# EAGLE library part FSB50450 (library fairchild-semic)
Smart Power Module (SPM®) 500V 3.0A 3-phase FRFET inverter including high voltage integrated circuit (HVIC) Source: http://www.fairchildsemi.com/ds/FS/FSB50450.pdf
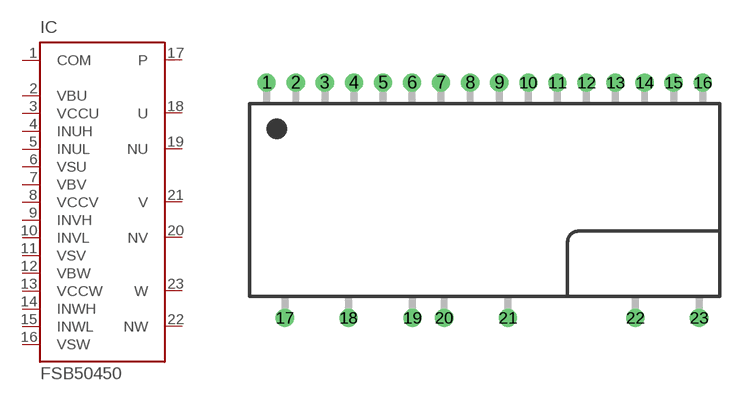
[diagram p0: symbol with the pads of SPM23AA; footprint SPM23AA]

Designator prefix IC

## FSB50450 (MPN: FSB50450S; OC_FARNELL: 1095107; OC_NEWARK: 67P3515)  [SPM23AA]
1  COM  in
2  VBU  in
3  VCCU  in
4  INUH  in
5  INUL  in
6  VSU  in
7  VBV  in
8  VCCV  in
9  INVH  in
10  INVL  in
11  VSV  in
12  VBW  in
13  VCCW  in
14  INWH  in
15  INWL  in
16  VSW  in
17  P  in
18  U  in
19  NU  in
20  NV  in
21  V  in
22  NW  in
23  W  in

## Footprint SPM23AA (pad centres in mm)
Source: http://www.fairchildsemi.com/ds/FS/FSB50450.pdf
drill 0.6 pad 1: 1 -13.34,7.2; 2 -11.561,7.2; 3 -9.783,7.2; 4 -8.004,7.2; 5 -6.226,7.2; 6 -4.447,7.2; 7 -2.668,7.2; 8 -0.89,7.2; 9 0.889,7.2; 10 2.667,7.2; 11 4.446,7.2; 12 6.225,7.2; 13 8.003,7.2; 14 9.782,7.2; 15 11.56,7.2; 16 13.339,7.2; 17 -12.23,-7.2; 18 -8.33,-7.2; 19 -4.43,-7.2; 20 -2.48,-7.2; 21 1.42,-7.2; 22 9.22,-7.2; 23 13.12,-7.2